# Altium schematic symbol library SCH - CONNECTORS - SAMTEC - SFM-104-02-L-D-A.SCHLIB: 1 symbol
Pins are listed as number, name and electrical type; pins without a type are passive.

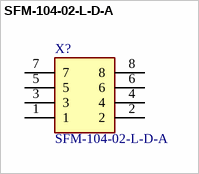
[diagram p0: symbol SFM-104-02-L-D-A]

## SFM-104-02-L-D-A
designator X?
Connector; Manufacturer_Name: SAMTEC; Datasheet Link: http://suddendocs.samtec.com/prints/sfm-1xx-xx-xxx-d-xxx-mkt.pdf; Manufacturer_Part_Number: SFM-104-02-L-D-A; Arrow Part Number: SFM-104-02-L-D-A; Mouser Part Number: 200-SFM10402LDA; Mouser Price/Stock: https://www.mouser.com/Search/Refine.aspx?Keyword=200-SFM10402LDA
footprint SFM-104-YY-ZZZ-D-A
pins: 1, 2, 3, 4, 5, 6, 7, 8